# Altium schematic symbol library PCA.SchLib: 4 symbols
Pins are listed as number, name and electrical type; pins without a type are passive.

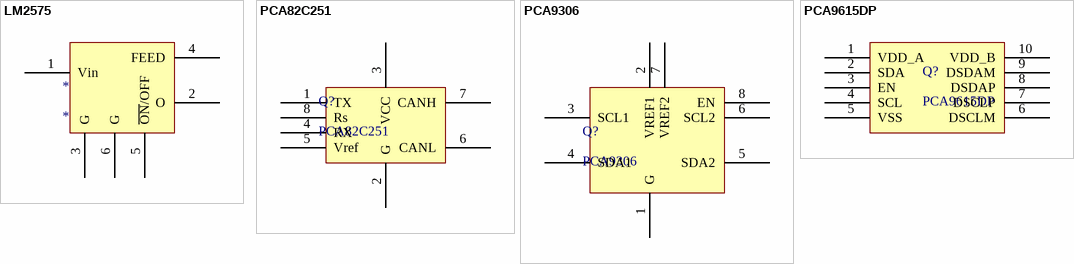
[diagram p0: symbols LM2575 to PCA9615DP]

## LM2575
designator *
footprint KTT (D2-PAK, 6-Pads, Body 7.93x8.69mm (max), IPC Medium Density)
pins: 1 Vin, 2 O, 3 G, 4 FEED, 5 ~{ON}/OFF, 6 G

## PCA82C251
designator Q?
footprint SOIC150-8_M (8-Pin Plastic Narrow Body Small Outline Integrated Circuit 1.27 mm Pitch, IPC Low Density)
pins: 1 TX, 2 G, 3 VCC, 4 RX, 5 Vref, 6 CANL, 7 CANH, 8 Rs

## PCA9306
designator Q?
footprint SSOP8 (Footprint not found)
pins: 1 G, 2 VREF1, 3 SCL1, 4 SDA1, 5 SDA2, 6 SCL2, 7 VREF2, 8 EN

## PCA9615DP
designator Q?
footprint TSSOP10 (Footprint not found)
pins: 1 VDD_A, 2 SDA, 3 EN, 4 SCL, 5 VSS, 6 DSCLM, 7 DSCLP, 8 DSDAP, 9 DSDAM, 10 VDD_B